# Altium integrated library Analog Devices Data Converters Digital-to-Analog Converters.IntLib: 2231 symbols (part 21 of 181)
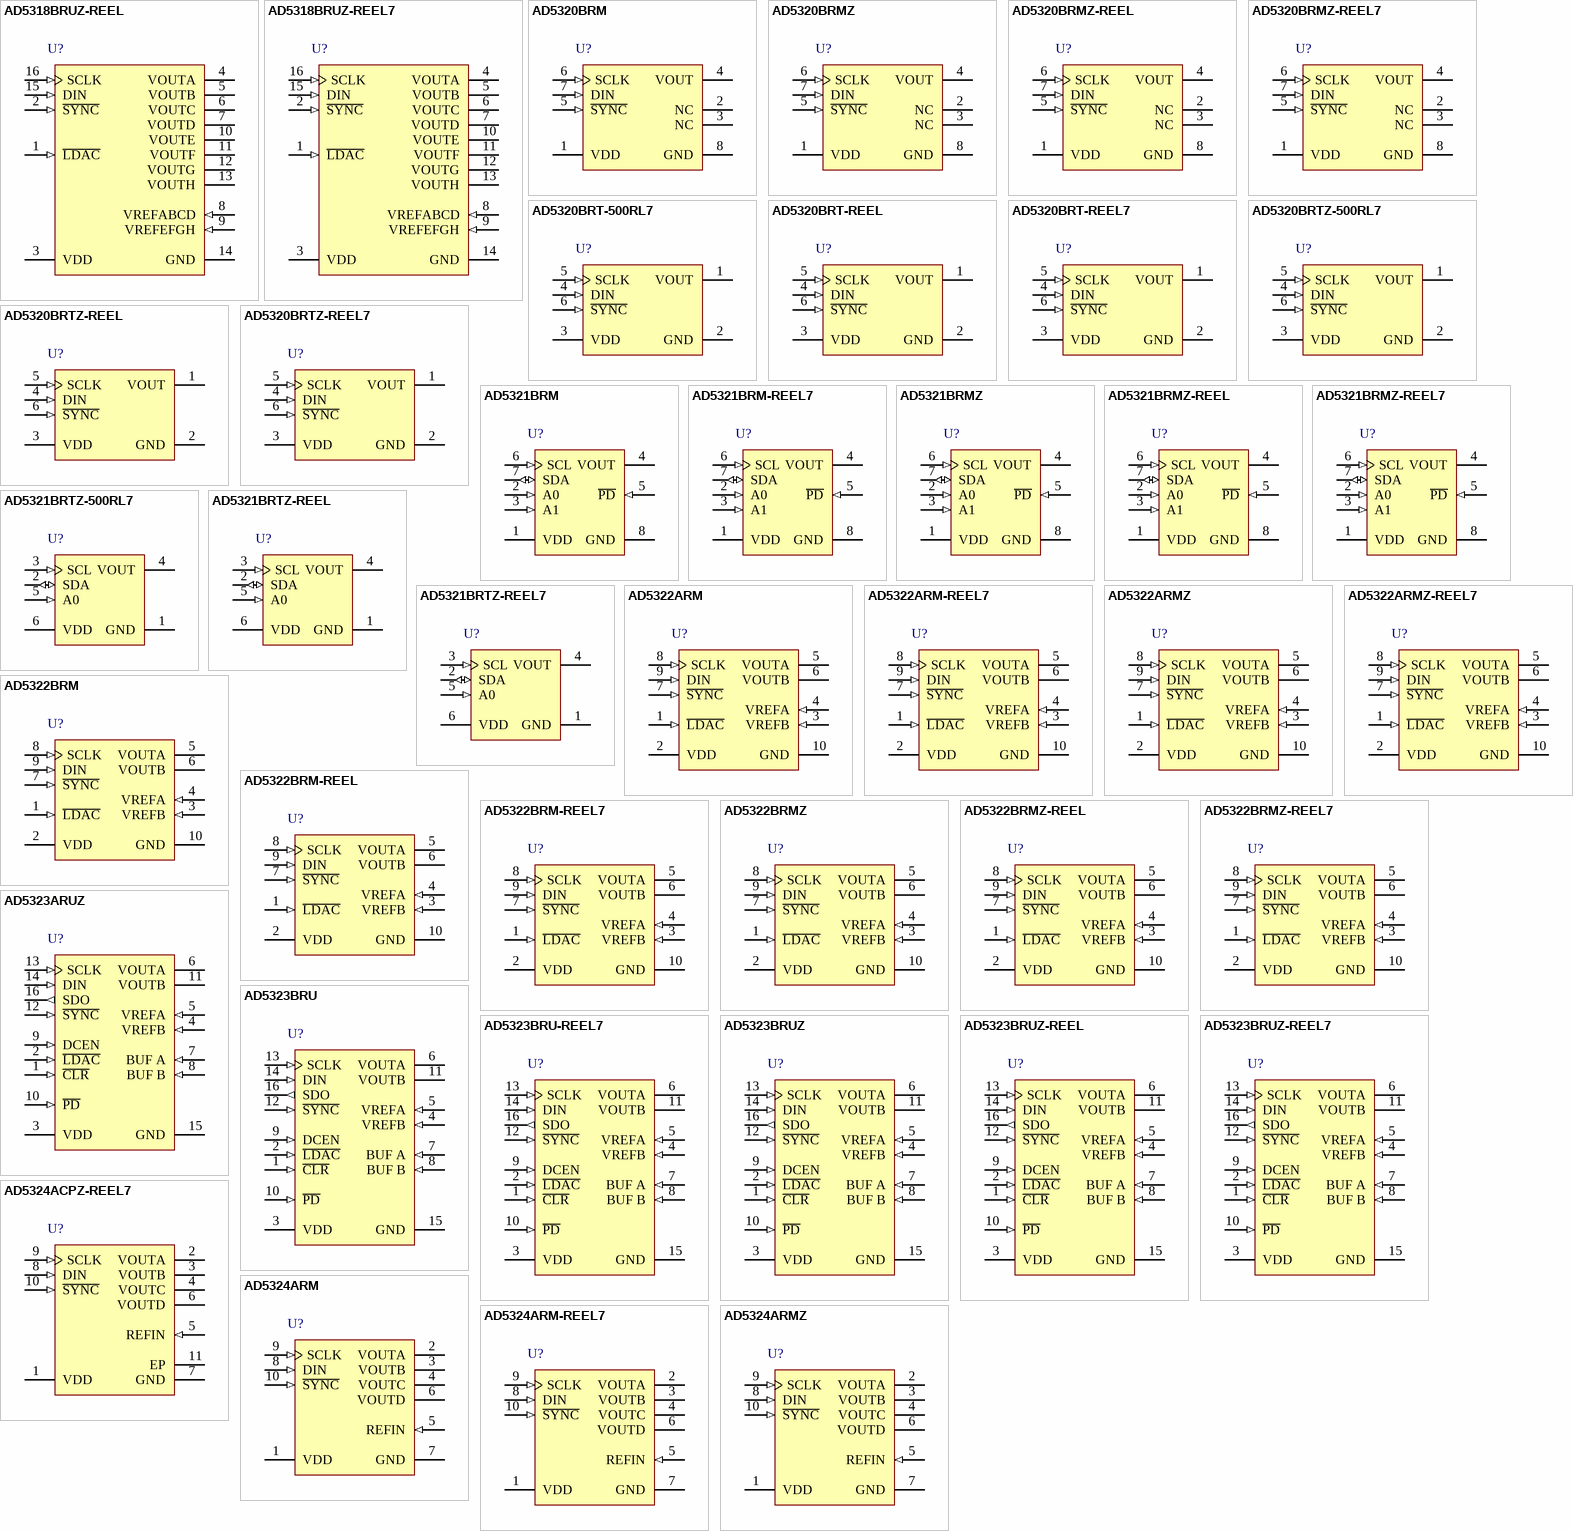
[diagram p134: symbols AD5318BRUZ-REEL to AD5324ARMZ]

## AD5321BRM-REEL7
designator U?
Single 12-Bit Digital-to-Analog Converter with 2-Wire Interface, 2.5 to 5.5 V, 120 uA, -40 to +105 degC, RM-8, Reel; Generic Part Number: AD5321; Manufacturer: Analog Devices; PartNumber: AD5321BRM-REEL7; # DAC Outputs: 1; Max V+: 5.5V; Op Pwr Diss: 1.4mW; Resolution (Bits): 12; Settling Time: 8µs; Single Supply: Yes; DatasheetVersion: Rev.B; PackageVersion: Aug-2005; PackageReference: RM-8; PackageDescription: 8-Lead Mini Small Outline Package [MSOP]; Supplier 1: Digi-Key; Supplier Part Number 1: AD5321BRM-REEL7-ND; Supplier 2: Mouser; Supplier Part Number 2: 584-AD5321BRM-R7; Packing: Reel; RoHS: N; Mounting Technology: Surface Mount; Code_JEDEC: MO-187-AA; ComponentLink1Description: Manufacturer URL; ComponentLink1URL: http://www.analog.com/en/index.html; ComponentLink2Description: Datasheet; ComponentLink2URL: http://www.analog.com/static/imported-files/data_sheets/AD5301_5311_5321.pdf; ComponentLink3Description: Package Specification; ComponentLink3URL: http://www.analog.com/static/imported-files/packages/PKG_PDF/MSOP%28RM%29/RM_8.pdf; ComponentLink4Description: Product URL; ComponentLink4URL: http://www.analog.com/en/digital-to-analog-converters/da-converters/ad5321/products/product.html
footprint RM-8_N (TSOP, 8-Leads, Body 3x3mm, Pitch 0.65mm, IPC Medium Density)
footprint RM-8_L (TSOP, 8-Leads, Body 3x3mm, Pitch 0.65mm, IPC High Density)
footprint RM-8_M (TSOP, 8-Leads, Body 3x3mm, Pitch 0.65mm, IPC Low Density)
pins: 1 VDD (power) "Power Supply Input. These parts can be operated from 2.5 V to 5.5 V and the supply should be decoupled with a 10 uF in parallel with a 0.1 uF capacitor to GND.", 2 A0 (in) "Address Input. Sets the least significant bit of the 7-bit slave address.", 3 A1 (in) "Address Input. Sets the second least significant bit of the 7-bit slave address.", 4 VOUT (hiz) "Buffered Analog Output Voltage from the DAC. The output amplifier has rail-to-rail operation.", 5 ~{PD} (in) "Active Low Control Input. Acts as a hardware power-down option. This pin overrides any software power-down option. The DAC output goes three-state and the current consumption of the part drops to 50 nA @ 3 V (200 nA @ 5 V).", 6 SCL (in) "Serial Clock Line. This is used in conjunction with the SDA line to clock data into the 16-bit input shift register. Clock rates of up to 400 kbps can be accommodated in the I2C-compatible interface. SCL may be CMOS/TTL (See Datasheet)", 7 SDA (io) "Serial Data Line. This is used in conjunction with the SCL line to clock data into the 16-bit input shift register during the write cycle and to read back one or two bytes of data (two bytes for the AD5321) during the read (See Datasheet)", 8 GND (power) "Ground Reference Point for All Circuitry on the Part."

## AD5321BRMZ
designator U?
Single 12-Bit Digital-to-Analog Converter with 2-Wire Interface, 2.5 to 5.5 V, 120 uA, -40 to +105 degC, RM-8, Pb-Free, Tube; Generic Part Number: AD5321; Manufacturer: Analog Devices; PartNumber: AD5321BRMZ; # DAC Outputs: 1; Max V+: 5.5V; Op Pwr Diss: 1.4mW; Resolution (Bits): 12; Settling Time: 8µs; Single Supply: Yes; DatasheetVersion: Rev.B; PackageVersion: Aug-2005; PackageReference: RM-8; PackageDescription: 8-Lead Mini Small Outline Package [MSOP]; Supplier 1: Digi-Key; Supplier Part Number 1: AD5321BRMZ-ND; Supplier 2: Farnell; Supplier Part Number 2: 9603964; Supplier 3: Newark; Supplier Part Number 3: 19M0810; Supplier 4: Mouser; Supplier Part Number 4: 584-AD5321BRMZ; Packing: Tube; RoHS: Y; Mounting Technology: Surface Mount; Code_JEDEC: MO-187-AA; ComponentLink1Description: Manufacturer URL; ComponentLink1URL: http://www.analog.com/en/index.html; ComponentLink2Description: Datasheet; ComponentLink2URL: http://www.analog.com/static/imported-files/data_sheets/AD5301_5311_5321.pdf; ComponentLink3Description: Package Specification; ComponentLink3URL: http://www.analog.com/static/imported-files/packages/PKG_PDF/MSOP%28RM%29/RM_8.pdf; ComponentLink4Description: Product URL; ComponentLink4URL: http://www.analog.com/en/digital-to-analog-converters/da-converters/ad5321/products/product.html
footprint RM-8_N (TSOP, 8-Leads, Body 3x3mm, Pitch 0.65mm, IPC Medium Density)
footprint RM-8_L (TSOP, 8-Leads, Body 3x3mm, Pitch 0.65mm, IPC High Density)
footprint RM-8_M (TSOP, 8-Leads, Body 3x3mm, Pitch 0.65mm, IPC Low Density)
pins: 1 VDD (power) "Power Supply Input. These parts can be operated from 2.5 V to 5.5 V and the supply should be decoupled with a 10 uF in parallel with a 0.1 uF capacitor to GND.", 2 A0 (in) "Address Input. Sets the least significant bit of the 7-bit slave address.", 3 A1 (in) "Address Input. Sets the second least significant bit of the 7-bit slave address.", 4 VOUT (hiz) "Buffered Analog Output Voltage from the DAC. The output amplifier has rail-to-rail operation.", 5 ~{PD} (in) "Active Low Control Input. Acts as a hardware power-down option. This pin overrides any software power-down option. The DAC output goes three-state and the current consumption of the part drops to 50 nA @ 3 V (200 nA @ 5 V).", 6 SCL (in) "Serial Clock Line. This is used in conjunction with the SDA line to clock data into the 16-bit input shift register. Clock rates of up to 400 kbps can be accommodated in the I2C-compatible interface. SCL may be CMOS/TTL (See Datasheet)", 7 SDA (io) "Serial Data Line. This is used in conjunction with the SCL line to clock data into the 16-bit input shift register during the write cycle and to read back one or two bytes of data (two bytes for the AD5321) during the read (See Datasheet)", 8 GND (power) "Ground Reference Point for All Circuitry on the Part."

## AD5321BRMZ-REEL
designator U?
Single 12-Bit Digital-to-Analog Converter with 2-Wire Interface, 2.5 to 5.5 V, 120 uA, -40 to +105 degC, RM-8, Pb-Free, Reel; Generic Part Number: AD5321; Manufacturer: Analog Devices; PartNumber: AD5321BRMZ-REEL; # DAC Outputs: 1; Max V+: 5.5V; Op Pwr Diss: 1.4mW; Resolution (Bits): 12; Settling Time: 8µs; Single Supply: Yes; DatasheetVersion: Rev.B; PackageVersion: Aug-2005; PackageReference: RM-8; PackageDescription: 8-Lead Mini Small Outline Package [MSOP]; Supplier 1: Digi-Key; Supplier Part Number 1: AD5321BRMZ-REEL-ND; Supplier 2: Newark; Supplier Part Number 2: 59K3927; Supplier 3: Mouser; Supplier Part Number 3: 584-AD5321BRMZ-R; Packing: Reel; RoHS: Y; Mounting Technology: Surface Mount; Code_JEDEC: MO-187-AA; ComponentLink1Description: Manufacturer URL; ComponentLink1URL: http://www.analog.com/en/index.html; ComponentLink2Description: Datasheet; ComponentLink2URL: http://www.analog.com/static/imported-files/data_sheets/AD5301_5311_5321.pdf; ComponentLink3Description: Package Specification; ComponentLink3URL: http://www.analog.com/static/imported-files/packages/PKG_PDF/MSOP%28RM%29/RM_8.pdf; ComponentLink4Description: Product URL; ComponentLink4URL: http://www.analog.com/en/digital-to-analog-converters/da-converters/ad5321/products/product.html
footprint RM-8_N (TSOP, 8-Leads, Body 3x3mm, Pitch 0.65mm, IPC Medium Density)
footprint RM-8_L (TSOP, 8-Leads, Body 3x3mm, Pitch 0.65mm, IPC High Density)
footprint RM-8_M (TSOP, 8-Leads, Body 3x3mm, Pitch 0.65mm, IPC Low Density)
pins: 1 VDD (power) "Power Supply Input. These parts can be operated from 2.5 V to 5.5 V and the supply should be decoupled with a 10 uF in parallel with a 0.1 uF capacitor to GND.", 2 A0 (in) "Address Input. Sets the least significant bit of the 7-bit slave address.", 3 A1 (in) "Address Input. Sets the second least significant bit of the 7-bit slave address.", 4 VOUT (hiz) "Buffered Analog Output Voltage from the DAC. The output amplifier has rail-to-rail operation.", 5 ~{PD} (in) "Active Low Control Input. Acts as a hardware power-down option. This pin overrides any software power-down option. The DAC output goes three-state and the current consumption of the part drops to 50 nA @ 3 V (200 nA @ 5 V).", 6 SCL (in) "Serial Clock Line. This is used in conjunction with the SDA line to clock data into the 16-bit input shift register. Clock rates of up to 400 kbps can be accommodated in the I2C-compatible interface. SCL may be CMOS/TTL (See Datasheet)", 7 SDA (io) "Serial Data Line. This is used in conjunction with the SCL line to clock data into the 16-bit input shift register during the write cycle and to read back one or two bytes of data (two bytes for the AD5321) during the read (See Datasheet)", 8 GND (power) "Ground Reference Point for All Circuitry on the Part."

## AD5321BRMZ-REEL7
designator U?
Single 12-Bit Digital-to-Analog Converter with 2-Wire Interface, 2.5 to 5.5 V, 120 uA, -40 to +105 degC, RM-8, Pb-Free, Reel; Generic Part Number: AD5321; Manufacturer: Analog Devices; PartNumber: AD5321BRMZ-REEL7; # DAC Outputs: 1; Max V+: 5.5V; Op Pwr Diss: 1.4mW; Resolution (Bits): 12; Settling Time: 8µs; Single Supply: Yes; DatasheetVersion: Rev.B; PackageVersion: Aug-2005; PackageReference: RM-8; PackageDescription: 8-Lead Mini Small Outline Package [MSOP]; Supplier 1: Digi-Key; Supplier Part Number 1: AD5321BRMZ-REEL7TR-ND; Supplier 2: Digi-Key; Supplier Part Number 2: AD5321BRMZ-REEL7CT-ND; Supplier 3: Digi-Key; Supplier Part Number 3: AD5321BRMZ-REEL7DKR-ND; Supplier 4: Mouser; Supplier Part Number 4: 584-AD5321BRMZ-R7; Packing: Reel; RoHS: Y; Mounting Technology: Surface Mount; Code_JEDEC: MO-187-AA; ComponentLink1Description: Manufacturer URL; ComponentLink1URL: http://www.analog.com/en/index.html; ComponentLink2Description: Datasheet; ComponentLink2URL: http://www.analog.com/static/imported-files/data_sheets/AD5301_5311_5321.pdf; ComponentLink3Description: Package Specification; ComponentLink3URL: http://www.analog.com/static/imported-files/packages/PKG_PDF/MSOP%28RM%29/RM_8.pdf; ComponentLink4Description: Product URL; ComponentLink4URL: http://www.analog.com/en/digital-to-analog-converters/da-converters/ad5321/products/product.html
footprint RM-8_N (TSOP, 8-Leads, Body 3x3mm, Pitch 0.65mm, IPC Medium Density)
footprint RM-8_L (TSOP, 8-Leads, Body 3x3mm, Pitch 0.65mm, IPC High Density)
footprint RM-8_M (TSOP, 8-Leads, Body 3x3mm, Pitch 0.65mm, IPC Low Density)
pins: 1 VDD (power) "Power Supply Input. These parts can be operated from 2.5 V to 5.5 V and the supply should be decoupled with a 10 uF in parallel with a 0.1 uF capacitor to GND.", 2 A0 (in) "Address Input. Sets the least significant bit of the 7-bit slave address.", 3 A1 (in) "Address Input. Sets the second least significant bit of the 7-bit slave address.", 4 VOUT (hiz) "Buffered Analog Output Voltage from the DAC. The output amplifier has rail-to-rail operation.", 5 ~{PD} (in) "Active Low Control Input. Acts as a hardware power-down option. This pin overrides any software power-down option. The DAC output goes three-state and the current consumption of the part drops to 50 nA @ 3 V (200 nA @ 5 V).", 6 SCL (in) "Serial Clock Line. This is used in conjunction with the SDA line to clock data into the 16-bit input shift register. Clock rates of up to 400 kbps can be accommodated in the I2C-compatible interface. SCL may be CMOS/TTL (See Datasheet)", 7 SDA (io) "Serial Data Line. This is used in conjunction with the SCL line to clock data into the 16-bit input shift register during the write cycle and to read back one or two bytes of data (two bytes for the AD5321) during the read (See Datasheet)", 8 GND (power) "Ground Reference Point for All Circuitry on the Part."

## AD5321BRTZ-500RL7
designator U?
Single 12-Bit Digital-to-Analog Converter with 2-Wire Interface, 2.5 to 5.5 V, 120 uA, -40 to +105 degC, RJ-6, Pb-Free, Reel; Generic Part Number: AD5321; Manufacturer: Analog Devices; PartNumber: AD5321BRTZ-500RL7; # DAC Outputs: 1; Max V+: 5.5V; Op Pwr Diss: 1.4mW; Resolution (Bits): 12; Settling Time: 8µs; Single Supply: Yes; DatasheetVersion: Rev.B; PackageVersion: 121608-A; PackageReference: RJ-6; PackageDescription: 6-Lead Small Outline Transistor Package [SOT-23]; Supplier 1: Digi-Key; Supplier Part Number 1: AD5321BRTZ-500RL7TR-ND; Supplier 2: Digi-Key; Supplier Part Number 2: AD5321BRTZ-500RL7CT-ND; Supplier 3: Digi-Key; Supplier Part Number 3: AD5321BRTZ-500RL7DKR-ND; Supplier 4: Mouser; Supplier Part Number 4: 584-AD5321BRTZ-500R7; Packing: Reel; RoHS: Y; Mounting Technology: Surface Mount; Code_JEDEC: MO-178-AB; ComponentLink1Description: Manufacturer URL; ComponentLink1URL: http://www.analog.com/en/index.html; ComponentLink2Description: Datasheet; ComponentLink2URL: http://www.analog.com/static/imported-files/data_sheets/AD5301_5311_5321.pdf; ComponentLink3Description: Package Specification; ComponentLink3URL: http://www.analog.com/static/imported-files/packages/PKG_PDF/SOT-23(RJ)/RJ_6.pdf; ComponentLink4Description: Product URL; ComponentLink4URL: http://www.analog.com/en/digital-to-analog-converters/da-converters/ad5321/products/product.html
footprint RJ-6_N (SOT23, 6-Leads, Body 2.9x1.6mm, Pitch 0.95mm, Lead Span 2.8mm, IPC Medium Density)
footprint RJ-6_L (SOT23, 6-Leads, Body 2.9x1.6mm, Pitch 0.95mm, Lead Span 2.8mm, IPC High Density)
footprint RJ-6_M (SOT23, 6-Leads, Body 2.9x1.6mm, Pitch 0.95mm, Lead Span 2.8mm, IPC Low Density)
pins: 1 GND (power) "Ground Reference Point for All Circuitry on the Part.", 2 SDA (io) "Serial Data Line. This is used in conjunction with the SCL line to clock data into the 16-bit input shift register during the write cycle and to read back one or two bytes of data (one byte for the AD5301,  two bytes for the (See Datasheet)", 3 SCL (in) "Serial Clock Line. This is used in conjunction with the SDA line to clock data into the 16-bit input shift register. Clock rates of up to 400 kbps can be accommodated in the I2C-compatible interface. SCL may be CMOS/TTL (See Datasheet)", 4 VOUT (hiz) "Buffered Analog Output Voltage from the DAC. The output amplifier has rail-to-rail operation.", 5 A0 (in) "Address Input. Sets the least significant bit of the 7-bit slave address.", 6 VDD (power) "Power Supply Input. These parts can be operated from 2.5 V to 5.5 V and the supply should be decoupled with a 10 μF in parallel with a 0.1uF capacitor to GND."

## AD5321BRTZ-REEL
designator U?
Single 12-Bit Digital-to-Analog Converter with 2-Wire Interface, 2.5 to 5.5 V, 120 uA, -40 to +105 degC, RJ-6, Pb-Free, Reel; Generic Part Number: AD5321; Manufacturer: Analog Devices; PartNumber: AD5321BRTZ-REEL; # DAC Outputs: 1; Max V+: 5.5V; Op Pwr Diss: 1.4mW; Resolution (Bits): 12; Settling Time: 8µs; Single Supply: Yes; DatasheetVersion: Rev.B; PackageVersion: 121608-A; PackageReference: RJ-6; PackageDescription: 6-Lead Small Outline Transistor Package [SOT-23]; Supplier 1: Digi-Key; Supplier Part Number 1: AD5321BRTZ-REEL-ND; Supplier 2: Mouser; Supplier Part Number 2: 584-AD5321BRTZ-R; Packing: Reel; RoHS: Y; Mounting Technology: Surface Mount; Code_JEDEC: MO-178-AB; ComponentLink1Description: Manufacturer URL; ComponentLink1URL: http://www.analog.com/en/index.html; ComponentLink2Description: Datasheet; ComponentLink2URL: http://www.analog.com/static/imported-files/data_sheets/AD5301_5311_5321.pdf; ComponentLink3Description: Package Specification; ComponentLink3URL: http://www.analog.com/static/imported-files/packages/PKG_PDF/SOT-23(RJ)/RJ_6.pdf; ComponentLink4Description: Product URL; ComponentLink4URL: http://www.analog.com/en/digital-to-analog-converters/da-converters/ad5321/products/product.html
footprint RJ-6_N (SOT23, 6-Leads, Body 2.9x1.6mm, Pitch 0.95mm, Lead Span 2.8mm, IPC Medium Density)
footprint RJ-6_L (SOT23, 6-Leads, Body 2.9x1.6mm, Pitch 0.95mm, Lead Span 2.8mm, IPC High Density)
footprint RJ-6_M (SOT23, 6-Leads, Body 2.9x1.6mm, Pitch 0.95mm, Lead Span 2.8mm, IPC Low Density)
pins: 1 GND (power) "Ground Reference Point for All Circuitry on the Part.", 2 SDA (io) "Serial Data Line. This is used in conjunction with the SCL line to clock data into the 16-bit input shift register during the write cycle and to read back one or two bytes of data (one byte for the AD5301,  two bytes for the (See Datasheet)", 3 SCL (in) "Serial Clock Line. This is used in conjunction with the SDA line to clock data into the 16-bit input shift register. Clock rates of up to 400 kbps can be accommodated in the I2C-compatible interface. SCL may be CMOS/TTL (See Datasheet)", 4 VOUT (hiz) "Buffered Analog Output Voltage from the DAC. The output amplifier has rail-to-rail operation.", 5 A0 (in) "Address Input. Sets the least significant bit of the 7-bit slave address.", 6 VDD (power) "Power Supply Input. These parts can be operated from 2.5 V to 5.5 V and the supply should be decoupled with a 10 μF in parallel with a 0.1uF capacitor to GND."

## AD5321BRTZ-REEL7
designator U?
Single 12-Bit Digital-to-Analog Converter with 2-Wire Interface, 2.5 to 5.5 V, 120 uA, -40 to +105 degC, RJ-6, Pb-Free, Reel; Generic Part Number: AD5321; Manufacturer: Analog Devices; PartNumber: AD5321BRTZ-REEL7; # DAC Outputs: 1; Max V+: 5.5V; Op Pwr Diss: 1.4mW; Resolution (Bits): 12; Settling Time: 8µs; Single Supply: Yes; DatasheetVersion: Rev.B; PackageVersion: 121608-A; PackageReference: RJ-6; PackageDescription: 6-Lead Small Outline Transistor Package [SOT-23]; Supplier 1: Digi-Key; Supplier Part Number 1: AD5321BRTZ-REEL7TR-ND; Supplier 2: Digi-Key; Supplier Part Number 2: AD5321BRTZ-REEL7CT-ND; Supplier 3: Digi-Key; Supplier Part Number 3: AD5321BRTZ-REEL7DKR-ND; Supplier 4: Mouser; Supplier Part Number 4: 584-AD5321BRTZ-R7; Packing: Reel; RoHS: Y; Mounting Technology: Surface Mount; Code_JEDEC: MO-178-AB; ComponentLink1Description: Manufacturer URL; ComponentLink1URL: http://www.analog.com/en/index.html; ComponentLink2Description: Datasheet; ComponentLink2URL: http://www.analog.com/static/imported-files/data_sheets/AD5301_5311_5321.pdf; ComponentLink3Description: Package Specification; ComponentLink3URL: http://www.analog.com/static/imported-files/packages/PKG_PDF/SOT-23(RJ)/RJ_6.pdf; ComponentLink4Description: Product URL; ComponentLink4URL: http://www.analog.com/en/digital-to-analog-converters/da-converters/ad5321/products/product.html
footprint RJ-6_N (SOT23, 6-Leads, Body 2.9x1.6mm, Pitch 0.95mm, Lead Span 2.8mm, IPC Medium Density)
footprint RJ-6_L (SOT23, 6-Leads, Body 2.9x1.6mm, Pitch 0.95mm, Lead Span 2.8mm, IPC High Density)
footprint RJ-6_M (SOT23, 6-Leads, Body 2.9x1.6mm, Pitch 0.95mm, Lead Span 2.8mm, IPC Low Density)
pins: 1 GND (power) "Ground Reference Point for All Circuitry on the Part.", 2 SDA (io) "Serial Data Line. This is used in conjunction with the SCL line to clock data into the 16-bit input shift register during the write cycle and to read back one or two bytes of data (one byte for the AD5301,  two bytes for the (See Datasheet)", 3 SCL (in) "Serial Clock Line. This is used in conjunction with the SDA line to clock data into the 16-bit input shift register. Clock rates of up to 400 kbps can be accommodated in the I2C-compatible interface. SCL may be CMOS/TTL (See Datasheet)", 4 VOUT (hiz) "Buffered Analog Output Voltage from the DAC. The output amplifier has rail-to-rail operation.", 5 A0 (in) "Address Input. Sets the least significant bit of the 7-bit slave address.", 6 VDD (power) "Power Supply Input. These parts can be operated from 2.5 V to 5.5 V and the supply should be decoupled with a 10 μF in parallel with a 0.1uF capacitor to GND."

## AD5322ARM
designator U?
Dual 12-Bit Rail-to-Rail Output Digital-to-Analog Converter, 2.5 to 5.5 V, -40 to +105 degC, RM-10, Tube; Generic Part Number: AD5322; Manufacturer: Analog Devices; PartNumber: AD5322ARM; # DAC Outputs: 2; Max V+: 5.5V; Op Pwr Diss: 2.5mW; Resolution (Bits): 12; Settling Time: 8µs; Single Supply: Yes; DatasheetVersion: Rev.D; PackageVersion: May-2005; PackageReference: RM-10; PackageDescription: 10-Lead Mini Small Outline Package [MSOP]; Supplier 1: Digi-Key; Supplier Part Number 1: AD5322ARM-ND; Supplier 2: Mouser; Supplier Part Number 2: 584-AD5322ARM; Packing: Tube; RoHS: N; Mounting Technology: Surface Mount; ComponentLink1Description: Manufacturer URL; ComponentLink1URL: http://www.analog.com/en/index.html; ComponentLink2Description: Datasheet; ComponentLink2URL: http://www.analog.com/static/imported-files/data_sheets/AD5302_5312_5322.pdf; ComponentLink3Description: Package Specification; ComponentLink3URL: http://www.analog.com/static/imported-files/packages/PKG_PDF/MSOP%28RM%29/RM_10.pdf; ComponentLink4Description: Product URL; ComponentLink4URL: http://www.analog.com/en/digital-to-analog-converters/da-converters/ad5322/products/product.html
footprint RM-10_N (TSSOP, 10-Leads, Body 3x3mm, Pitch 0.5mm, IPC Medium Density)
footprint RM-10_L (TSSOP, 10-Leads, Body 3x3mm, Pitch 0.5mm, IPC High Density)
footprint RM-10_M (TSSOP, 10-Leads, Body 3x3mm, Pitch 0.5mm, IPC Low Density)
pins: 1 ~{LDAC} (in) "Active Low Control Input. This pin transfers the contents of the input registers to their respective DAC registers. Pulsing L\D\A\C\ low allows either or both DAC registers to be updated if the input registers have new data. (See Datasheet)", 2 VDD (power) "Power Supply Input. The parts can be operated from 2.5 V to 5.5 V, and the supply should be decoupled to GND.", 3 VREFB (in) "Reference Input Pin for DAC B. This is the reference for DAC B. It can be configured as a buffered or an unbuffered input, depending on the BUF bit in the control word of DAC B. It has an input range of 0 V to VDD in (See Datasheet)", 4 VREFA (in) "Reference Input Pin for DAC A. This is the reference for DAC A. It can be configured as a buffered or an unbuffered input depending on the BUF bit in the control word of DAC A. It has an input range of 0 V to VDD in (See Datasheet)", 5 VOUTA (hiz) "Buffered Analog Output Voltage from DAC A. The output amplifier has rail-to-rail operation.", 6 VOUTB (hiz) "Buffered Analog Output Voltage from DAC B. The output amplifier has rail-to-rail operation.", 7 ~{SYNC} (in) "Active Low Control Input. This is the frame synchronization signal for the input data. When S\Y\N\C\ goes low, it powers on the SCLK and DIN buffers and enables the input shift register. Data is transferred in on the falling (See Datasheet)", 8 SCLK (in) "Serial Clock Input. Data is clocked into the input shift register on the falling edge of the serial clock input. Data can be transferred at rates up to 30 MHz. The SCLK input buffer is powered down after each write cycle.", 9 DIN (in) "Serial Data Input. This device has a 16-bit input shift register. Data is clocked into the register on the falling edge of the serial clock input. The DIN input buffer is powered down after each write cycle.", 10 GND (power) "Ground Reference Point for All Circuitry on the Part."

## AD5322ARM-REEL7
designator U?
Dual 12-Bit Rail-to-Rail Output Digital-to-Analog Converter, 2.5 to 5.5 V, -40 to +105 degC, RM-10, Reel; Generic Part Number: AD5322; Manufacturer: Analog Devices; PartNumber: AD5322ARM-REEL7; # DAC Outputs: 2; Max V+: 5.5V; Op Pwr Diss: 2.5mW; Resolution (Bits): 12; Settling Time: 8µs; Single Supply: Yes; DatasheetVersion: Rev.D; PackageVersion: May-2005; PackageReference: RM-10; PackageDescription: 10-Lead Mini Small Outline Package [MSOP]; Supplier 1: Digi-Key; Supplier Part Number 1: AD5322ARM-REEL7-ND; Supplier 2: Mouser; Supplier Part Number 2: 584-AD5322ARM-R7; Packing: Reel; RoHS: N; Mounting Technology: Surface Mount; ComponentLink1Description: Manufacturer URL; ComponentLink1URL: http://www.analog.com/en/index.html; ComponentLink2Description: Datasheet; ComponentLink2URL: http://www.analog.com/static/imported-files/data_sheets/AD5302_5312_5322.pdf; ComponentLink3Description: Package Specification; ComponentLink3URL: http://www.analog.com/static/imported-files/packages/PKG_PDF/MSOP%28RM%29/RM_10.pdf; ComponentLink4Description: Product URL; ComponentLink4URL: http://www.analog.com/en/digital-to-analog-converters/da-converters/ad5322/products/product.html
footprint RM-10_N (TSSOP, 10-Leads, Body 3x3mm, Pitch 0.5mm, IPC Medium Density)
footprint RM-10_L (TSSOP, 10-Leads, Body 3x3mm, Pitch 0.5mm, IPC High Density)
footprint RM-10_M (TSSOP, 10-Leads, Body 3x3mm, Pitch 0.5mm, IPC Low Density)
pins: 1 ~{LDAC} (in) "Active Low Control Input. This pin transfers the contents of the input registers to their respective DAC registers. Pulsing L\D\A\C\ low allows either or both DAC registers to be updated if the input registers have new data. (See Datasheet)", 2 VDD (power) "Power Supply Input. The parts can be operated from 2.5 V to 5.5 V, and the supply should be decoupled to GND.", 3 VREFB (in) "Reference Input Pin for DAC B. This is the reference for DAC B. It can be configured as a buffered or an unbuffered input, depending on the BUF bit in the control word of DAC B. It has an input range of 0 V to VDD in (See Datasheet)", 4 VREFA (in) "Reference Input Pin for DAC A. This is the reference for DAC A. It can be configured as a buffered or an unbuffered input depending on the BUF bit in the control word of DAC A. It has an input range of 0 V to VDD in (See Datasheet)", 5 VOUTA (hiz) "Buffered Analog Output Voltage from DAC A. The output amplifier has rail-to-rail operation.", 6 VOUTB (hiz) "Buffered Analog Output Voltage from DAC B. The output amplifier has rail-to-rail operation.", 7 ~{SYNC} (in) "Active Low Control Input. This is the frame synchronization signal for the input data. When S\Y\N\C\ goes low, it powers on the SCLK and DIN buffers and enables the input shift register. Data is transferred in on the falling (See Datasheet)", 8 SCLK (in) "Serial Clock Input. Data is clocked into the input shift register on the falling edge of the serial clock input. Data can be transferred at rates up to 30 MHz. The SCLK input buffer is powered down after each write cycle.", 9 DIN (in) "Serial Data Input. This device has a 16-bit input shift register. Data is clocked into the register on the falling edge of the serial clock input. The DIN input buffer is powered down after each write cycle.", 10 GND (power) "Ground Reference Point for All Circuitry on the Part."

## AD5322ARMZ
designator U?
Dual 12-Bit Rail-to-Rail Output Digital-to-Analog Converter, 2.5 to 5.5 V, -40 to +105 degC, RM-10, Pb-Free, Tube; Generic Part Number: AD5322; Manufacturer: Analog Devices; PartNumber: AD5322ARMZ; # DAC Outputs: 2; Max V+: 5.5V; Op Pwr Diss: 2.5mW; Resolution (Bits): 12; Settling Time: 8µs; Single Supply: Yes; DatasheetVersion: Rev.D; PackageVersion: May-2005; PackageReference: RM-10; PackageDescription: 10-Lead Mini Small Outline Package [MSOP]; Supplier 1: Digi-Key; Supplier Part Number 1: AD5322ARMZ-ND; Supplier 2: Newark; Supplier Part Number 2: 59K3932; Supplier 3: Mouser; Supplier Part Number 3: 584-AD5322ARMZ; Packing: Tube; RoHS: Y; Mounting Technology: Surface Mount; ComponentLink1Description: Manufacturer URL; ComponentLink1URL: http://www.analog.com/en/index.html; ComponentLink2Description: Datasheet; ComponentLink2URL: http://www.analog.com/static/imported-files/data_sheets/AD5302_5312_5322.pdf; ComponentLink3Description: Package Specification; ComponentLink3URL: http://www.analog.com/static/imported-files/packages/PKG_PDF/MSOP%28RM%29/RM_10.pdf; ComponentLink4Description: Product URL; ComponentLink4URL: http://www.analog.com/en/digital-to-analog-converters/da-converters/ad5322/products/product.html
footprint RM-10_N (TSSOP, 10-Leads, Body 3x3mm, Pitch 0.5mm, IPC Medium Density)
footprint RM-10_L (TSSOP, 10-Leads, Body 3x3mm, Pitch 0.5mm, IPC High Density)
footprint RM-10_M (TSSOP, 10-Leads, Body 3x3mm, Pitch 0.5mm, IPC Low Density)
pins: 1 ~{LDAC} (in) "Active Low Control Input. This pin transfers the contents of the input registers to their respective DAC registers. Pulsing L\D\A\C\ low allows either or both DAC registers to be updated if the input registers have new data. (See Datasheet)", 2 VDD (power) "Power Supply Input. The parts can be operated from 2.5 V to 5.5 V, and the supply should be decoupled to GND.", 3 VREFB (in) "Reference Input Pin for DAC B. This is the reference for DAC B. It can be configured as a buffered or an unbuffered input, depending on the BUF bit in the control word of DAC B. It has an input range of 0 V to VDD in (See Datasheet)", 4 VREFA (in) "Reference Input Pin for DAC A. This is the reference for DAC A. It can be configured as a buffered or an unbuffered input depending on the BUF bit in the control word of DAC A. It has an input range of 0 V to VDD in (See Datasheet)", 5 VOUTA (hiz) "Buffered Analog Output Voltage from DAC A. The output amplifier has rail-to-rail operation.", 6 VOUTB (hiz) "Buffered Analog Output Voltage from DAC B. The output amplifier has rail-to-rail operation.", 7 ~{SYNC} (in) "Active Low Control Input. This is the frame synchronization signal for the input data. When S\Y\N\C\ goes low, it powers on the SCLK and DIN buffers and enables the input shift register. Data is transferred in on the falling (See Datasheet)", 8 SCLK (in) "Serial Clock Input. Data is clocked into the input shift register on the falling edge of the serial clock input. Data can be transferred at rates up to 30 MHz. The SCLK input buffer is powered down after each write cycle.", 9 DIN (in) "Serial Data Input. This device has a 16-bit input shift register. Data is clocked into the register on the falling edge of the serial clock input. The DIN input buffer is powered down after each write cycle.", 10 GND (power) "Ground Reference Point for All Circuitry on the Part."

## AD5322ARMZ-REEL7
designator U?
Dual 12-Bit Rail-to-Rail Output Digital-to-Analog Converter, 2.5 to 5.5 V, -40 to +105 degC, RM-10, Pb-Free, Reel; Generic Part Number: AD5322; Manufacturer: Analog Devices; PartNumber: AD5322ARMZ-REEL7; # DAC Outputs: 2; Max V+: 5.5V; Op Pwr Diss: 2.5mW; Resolution (Bits): 12; Settling Time: 8µs; Single Supply: Yes; DatasheetVersion: Rev.D; PackageVersion: May-2005; PackageReference: RM-10; PackageDescription: 10-Lead Mini Small Outline Package [MSOP]; Supplier 1: Digi-Key; Supplier Part Number 1: AD5322ARMZ-REEL7-ND; Supplier 2: Mouser; Supplier Part Number 2: 584-AD5322ARMZ-R7; Packing: Reel; RoHS: Y; Mounting Technology: Surface Mount; ComponentLink1Description: Manufacturer URL; ComponentLink1URL: http://www.analog.com/en/index.html; ComponentLink2Description: Datasheet; ComponentLink2URL: http://www.analog.com/static/imported-files/data_sheets/AD5302_5312_5322.pdf; ComponentLink3Description: Package Specification; ComponentLink3URL: http://www.analog.com/static/imported-files/packages/PKG_PDF/MSOP%28RM%29/RM_10.pdf; ComponentLink4Description: Product URL; ComponentLink4URL: http://www.analog.com/en/digital-to-analog-converters/da-converters/ad5322/products/product.html
footprint RM-10_N (TSSOP, 10-Leads, Body 3x3mm, Pitch 0.5mm, IPC Medium Density)
footprint RM-10_L (TSSOP, 10-Leads, Body 3x3mm, Pitch 0.5mm, IPC High Density)
footprint RM-10_M (TSSOP, 10-Leads, Body 3x3mm, Pitch 0.5mm, IPC Low Density)
pins: 1 ~{LDAC} (in) "Active Low Control Input. This pin transfers the contents of the input registers to their respective DAC registers. Pulsing L\D\A\C\ low allows either or both DAC registers to be updated if the input registers have new data. (See Datasheet)", 2 VDD (power) "Power Supply Input. The parts can be operated from 2.5 V to 5.5 V, and the supply should be decoupled to GND.", 3 VREFB (in) "Reference Input Pin for DAC B. This is the reference for DAC B. It can be configured as a buffered or an unbuffered input, depending on the BUF bit in the control word of DAC B. It has an input range of 0 V to VDD in (See Datasheet)", 4 VREFA (in) "Reference Input Pin for DAC A. This is the reference for DAC A. It can be configured as a buffered or an unbuffered input depending on the BUF bit in the control word of DAC A. It has an input range of 0 V to VDD in (See Datasheet)", 5 VOUTA (hiz) "Buffered Analog Output Voltage from DAC A. The output amplifier has rail-to-rail operation.", 6 VOUTB (hiz) "Buffered Analog Output Voltage from DAC B. The output amplifier has rail-to-rail operation.", 7 ~{SYNC} (in) "Active Low Control Input. This is the frame synchronization signal for the input data. When S\Y\N\C\ goes low, it powers on the SCLK and DIN buffers and enables the input shift register. Data is transferred in on the falling (See Datasheet)", 8 SCLK (in) "Serial Clock Input. Data is clocked into the input shift register on the falling edge of the serial clock input. Data can be transferred at rates up to 30 MHz. The SCLK input buffer is powered down after each write cycle.", 9 DIN (in) "Serial Data Input. This device has a 16-bit input shift register. Data is clocked into the register on the falling edge of the serial clock input. The DIN input buffer is powered down after each write cycle.", 10 GND (power) "Ground Reference Point for All Circuitry on the Part."

## AD5322BRM
designator U?
Dual 12-Bit Rail-to-Rail Output Digital-to-Analog Converter, 2.5 to 5.5 V, -40 to +105 degC, RM-10, Tube; Generic Part Number: AD5322; Manufacturer: Analog Devices; PartNumber: AD5322BRM; # DAC Outputs: 2; Max V+: 5.5V; Op Pwr Diss: 2.5mW; Resolution (Bits): 12; Settling Time: 8µs; Single Supply: Yes; DatasheetVersion: Rev.D; PackageVersion: May-2005; PackageReference: RM-10; PackageDescription: 10-Lead Mini Small Outline Package [MSOP]; Supplier 1: Digi-Key; Supplier Part Number 1: AD5322BRM-ND; Supplier 2: Mouser; Supplier Part Number 2: 584-AD5322BRM; Packing: Tube; RoHS: N; Mounting Technology: Surface Mount; ComponentLink1Description: Manufacturer URL; ComponentLink1URL: http://www.analog.com/en/index.html; ComponentLink2Description: Datasheet; ComponentLink2URL: http://www.analog.com/static/imported-files/data_sheets/AD5302_5312_5322.pdf; ComponentLink3Description: Package Specification; ComponentLink3URL: http://www.analog.com/static/imported-files/packages/PKG_PDF/MSOP%28RM%29/RM_10.pdf; ComponentLink4Description: Product URL; ComponentLink4URL: http://www.analog.com/en/digital-to-analog-converters/da-converters/ad5322/products/product.html
footprint RM-10_N (TSSOP, 10-Leads, Body 3x3mm, Pitch 0.5mm, IPC Medium Density)
footprint RM-10_L (TSSOP, 10-Leads, Body 3x3mm, Pitch 0.5mm, IPC High Density)
footprint RM-10_M (TSSOP, 10-Leads, Body 3x3mm, Pitch 0.5mm, IPC Low Density)
pins: 1 ~{LDAC} (in) "Active Low Control Input. This pin transfers the contents of the input registers to their respective DAC registers. Pulsing L\D\A\C\ low allows either or both DAC registers to be updated if the input registers have new data. (See Datasheet)", 2 VDD (power) "Power Supply Input. The parts can be operated from 2.5 V to 5.5 V, and the supply should be decoupled to GND.", 3 VREFB (in) "Reference Input Pin for DAC B. This is the reference for DAC B. It can be configured as a buffered or an unbuffered input, depending on the BUF bit in the control word of DAC B. It has an input range of 0 V to VDD in (See Datasheet)", 4 VREFA (in) "Reference Input Pin for DAC A. This is the reference for DAC A. It can be configured as a buffered or an unbuffered input depending on the BUF bit in the control word of DAC A. It has an input range of 0 V to VDD in (See Datasheet)", 5 VOUTA (hiz) "Buffered Analog Output Voltage from DAC A. The output amplifier has rail-to-rail operation.", 6 VOUTB (hiz) "Buffered Analog Output Voltage from DAC B. The output amplifier has rail-to-rail operation.", 7 ~{SYNC} (in) "Active Low Control Input. This is the frame synchronization signal for the input data. When S\Y\N\C\ goes low, it powers on the SCLK and DIN buffers and enables the input shift register. Data is transferred in on the falling (See Datasheet)", 8 SCLK (in) "Serial Clock Input. Data is clocked into the input shift register on the falling edge of the serial clock input. Data can be transferred at rates up to 30 MHz. The SCLK input buffer is powered down after each write cycle.", 9 DIN (in) "Serial Data Input. This device has a 16-bit input shift register. Data is clocked into the register on the falling edge of the serial clock input. The DIN input buffer is powered down after each write cycle.", 10 GND (power) "Ground Reference Point for All Circuitry on the Part."

## AD5322BRM-REEL
designator U?
Dual 12-Bit Rail-to-Rail Output Digital-to-Analog Converter, 2.5 to 5.5 V, -40 to +105 degC, RM-10, Reel; Generic Part Number: AD5322; Manufacturer: Analog Devices; PartNumber: AD5322BRM-REEL; # DAC Outputs: 2; Max V+: 5.5V; Op Pwr Diss: 2.5mW; Resolution (Bits): 12; Settling Time: 8µs; Single Supply: Yes; DatasheetVersion: Rev.D; PackageVersion: May-2005; PackageReference: RM-10; PackageDescription: 10-Lead Mini Small Outline Package [MSOP]; Supplier 1: Mouser; Supplier Part Number 1: N/A; Packing: Reel; RoHS: N; Mounting Technology: Surface Mount; ComponentLink1Description: Manufacturer URL; ComponentLink1URL: http://www.analog.com/en/index.html; ComponentLink2Description: Datasheet; ComponentLink2URL: http://www.analog.com/static/imported-files/data_sheets/AD5302_5312_5322.pdf; ComponentLink3Description: Package Specification; ComponentLink3URL: http://www.analog.com/static/imported-files/packages/PKG_PDF/MSOP%28RM%29/RM_10.pdf; ComponentLink4Description: Product URL; ComponentLink4URL: http://www.analog.com/en/digital-to-analog-converters/da-converters/ad5322/products/product.html
footprint RM-10_N (TSSOP, 10-Leads, Body 3x3mm, Pitch 0.5mm, IPC Medium Density)
footprint RM-10_L (TSSOP, 10-Leads, Body 3x3mm, Pitch 0.5mm, IPC High Density)
footprint RM-10_M (TSSOP, 10-Leads, Body 3x3mm, Pitch 0.5mm, IPC Low Density)
pins: 1 ~{LDAC} (in) "Active Low Control Input. This pin transfers the contents of the input registers to their respective DAC registers. Pulsing L\D\A\C\ low allows either or both DAC registers to be updated if the input registers have new data. (See Datasheet)", 2 VDD (power) "Power Supply Input. The parts can be operated from 2.5 V to 5.5 V, and the supply should be decoupled to GND.", 3 VREFB (in) "Reference Input Pin for DAC B. This is the reference for DAC B. It can be configured as a buffered or an unbuffered input, depending on the BUF bit in the control word of DAC B. It has an input range of 0 V to VDD in (See Datasheet)", 4 VREFA (in) "Reference Input Pin for DAC A. This is the reference for DAC A. It can be configured as a buffered or an unbuffered input depending on the BUF bit in the control word of DAC A. It has an input range of 0 V to VDD in (See Datasheet)", 5 VOUTA (hiz) "Buffered Analog Output Voltage from DAC A. The output amplifier has rail-to-rail operation.", 6 VOUTB (hiz) "Buffered Analog Output Voltage from DAC B. The output amplifier has rail-to-rail operation.", 7 ~{SYNC} (in) "Active Low Control Input. This is the frame synchronization signal for the input data. When S\Y\N\C\ goes low, it powers on the SCLK and DIN buffers and enables the input shift register. Data is transferred in on the falling (See Datasheet)", 8 SCLK (in) "Serial Clock Input. Data is clocked into the input shift register on the falling edge of the serial clock input. Data can be transferred at rates up to 30 MHz. The SCLK input buffer is powered down after each write cycle.", 9 DIN (in) "Serial Data Input. This device has a 16-bit input shift register. Data is clocked into the register on the falling edge of the serial clock input. The DIN input buffer is powered down after each write cycle.", 10 GND (power) "Ground Reference Point for All Circuitry on the Part."

## AD5322BRM-REEL7
designator U?
Dual 12-Bit Rail-to-Rail Output Digital-to-Analog Converter, 2.5 to 5.5 V, -40 to +105 degC, RM-10, Reel; Generic Part Number: AD5322; Manufacturer: Analog Devices; PartNumber: AD5322BRM-REEL7; # DAC Outputs: 2; Max V+: 5.5V; Op Pwr Diss: 2.5mW; Resolution (Bits): 12; Settling Time: 8µs; Single Supply: Yes; DatasheetVersion: Rev.D; PackageVersion: May-2005; PackageReference: RM-10; PackageDescription: 10-Lead Mini Small Outline Package [MSOP]; Supplier 1: Digi-Key; Supplier Part Number 1: AD5322BRM-REEL7-ND; Supplier 2: Mouser; Supplier Part Number 2: 584-AD5322BRM-R7; Packing: Reel; RoHS: N; Mounting Technology: Surface Mount; ComponentLink1Description: Manufacturer URL; ComponentLink1URL: http://www.analog.com/en/index.html; ComponentLink2Description: Datasheet; ComponentLink2URL: http://www.analog.com/static/imported-files/data_sheets/AD5302_5312_5322.pdf; ComponentLink3Description: Package Specification; ComponentLink3URL: http://www.analog.com/static/imported-files/packages/PKG_PDF/MSOP%28RM%29/RM_10.pdf; ComponentLink4Description: Product URL; ComponentLink4URL: http://www.analog.com/en/digital-to-analog-converters/da-converters/ad5322/products/product.html
footprint RM-10_N (TSSOP, 10-Leads, Body 3x3mm, Pitch 0.5mm, IPC Medium Density)
footprint RM-10_L (TSSOP, 10-Leads, Body 3x3mm, Pitch 0.5mm, IPC High Density)
footprint RM-10_M (TSSOP, 10-Leads, Body 3x3mm, Pitch 0.5mm, IPC Low Density)
pins: 1 ~{LDAC} (in) "Active Low Control Input. This pin transfers the contents of the input registers to their respective DAC registers. Pulsing L\D\A\C\ low allows either or both DAC registers to be updated if the input registers have new data. (See Datasheet)", 2 VDD (power) "Power Supply Input. The parts can be operated from 2.5 V to 5.5 V, and the supply should be decoupled to GND.", 3 VREFB (in) "Reference Input Pin for DAC B. This is the reference for DAC B. It can be configured as a buffered or an unbuffered input, depending on the BUF bit in the control word of DAC B. It has an input range of 0 V to VDD in (See Datasheet)", 4 VREFA (in) "Reference Input Pin for DAC A. This is the reference for DAC A. It can be configured as a buffered or an unbuffered input depending on the BUF bit in the control word of DAC A. It has an input range of 0 V to VDD in (See Datasheet)", 5 VOUTA (hiz) "Buffered Analog Output Voltage from DAC A. The output amplifier has rail-to-rail operation.", 6 VOUTB (hiz) "Buffered Analog Output Voltage from DAC B. The output amplifier has rail-to-rail operation.", 7 ~{SYNC} (in) "Active Low Control Input. This is the frame synchronization signal for the input data. When S\Y\N\C\ goes low, it powers on the SCLK and DIN buffers and enables the input shift register. Data is transferred in on the falling (See Datasheet)", 8 SCLK (in) "Serial Clock Input. Data is clocked into the input shift register on the falling edge of the serial clock input. Data can be transferred at rates up to 30 MHz. The SCLK input buffer is powered down after each write cycle.", 9 DIN (in) "Serial Data Input. This device has a 16-bit input shift register. Data is clocked into the register on the falling edge of the serial clock input. The DIN input buffer is powered down after each write cycle.", 10 GND (power) "Ground Reference Point for All Circuitry on the Part."

## AD5322BRMZ
designator U?
Dual 12-Bit Rail-to-Rail Output Digital-to-Analog Converter, 2.5 to 5.5 V, -40 to +105 degC, RM-10, Pb-Free, Tube; Generic Part Number: AD5322; Manufacturer: Analog Devices; PartNumber: AD5322BRMZ; # DAC Outputs: 2; Max V+: 5.5V; Op Pwr Diss: 2.5mW; Resolution (Bits): 12; Settling Time: 8µs; Single Supply: Yes; DatasheetVersion: Rev.D; PackageVersion: May-2005; PackageReference: RM-10; PackageDescription: 10-Lead Mini Small Outline Package [MSOP]; Supplier 1: Digi-Key; Supplier Part Number 1: AD5322BRMZ-ND; Supplier 2: Farnell; Supplier Part Number 2: 9425675; Supplier 3: Newark; Supplier Part Number 3: 87H9890; Supplier 4: Mouser; Supplier Part Number 4: 584-AD5322BRMZ; Packing: Tube; RoHS: Y; Mounting Technology: Surface Mount; ComponentLink1Description: Manufacturer URL; ComponentLink1URL: http://www.analog.com/en/index.html; ComponentLink2Description: Datasheet; ComponentLink2URL: http://www.analog.com/static/imported-files/data_sheets/AD5302_5312_5322.pdf; ComponentLink3Description: Package Specification; ComponentLink3URL: http://www.analog.com/static/imported-files/packages/PKG_PDF/MSOP%28RM%29/RM_10.pdf; ComponentLink4Description: Product URL; ComponentLink4URL: http://www.analog.com/en/digital-to-analog-converters/da-converters/ad5322/products/product.html
footprint RM-10_N (TSSOP, 10-Leads, Body 3x3mm, Pitch 0.5mm, IPC Medium Density)
footprint RM-10_L (TSSOP, 10-Leads, Body 3x3mm, Pitch 0.5mm, IPC High Density)
footprint RM-10_M (TSSOP, 10-Leads, Body 3x3mm, Pitch 0.5mm, IPC Low Density)
pins: 1 ~{LDAC} (in) "Active Low Control Input. This pin transfers the contents of the input registers to their respective DAC registers. Pulsing L\D\A\C\ low allows either or both DAC registers to be updated if the input registers have new data. (See Datasheet)", 2 VDD (power) "Power Supply Input. The parts can be operated from 2.5 V to 5.5 V, and the supply should be decoupled to GND.", 3 VREFB (in) "Reference Input Pin for DAC B. This is the reference for DAC B. It can be configured as a buffered or an unbuffered input, depending on the BUF bit in the control word of DAC B. It has an input range of 0 V to VDD in (See Datasheet)", 4 VREFA (in) "Reference Input Pin for DAC A. This is the reference for DAC A. It can be configured as a buffered or an unbuffered input depending on the BUF bit in the control word of DAC A. It has an input range of 0 V to VDD in (See Datasheet)", 5 VOUTA (hiz) "Buffered Analog Output Voltage from DAC A. The output amplifier has rail-to-rail operation.", 6 VOUTB (hiz) "Buffered Analog Output Voltage from DAC B. The output amplifier has rail-to-rail operation.", 7 ~{SYNC} (in) "Active Low Control Input. This is the frame synchronization signal for the input data. When S\Y\N\C\ goes low, it powers on the SCLK and DIN buffers and enables the input shift register. Data is transferred in on the falling (See Datasheet)", 8 SCLK (in) "Serial Clock Input. Data is clocked into the input shift register on the falling edge of the serial clock input. Data can be transferred at rates up to 30 MHz. The SCLK input buffer is powered down after each write cycle.", 9 DIN (in) "Serial Data Input. This device has a 16-bit input shift register. Data is clocked into the register on the falling edge of the serial clock input. The DIN input buffer is powered down after each write cycle.", 10 GND (power) "Ground Reference Point for All Circuitry on the Part."

## AD5322BRMZ-REEL
designator U?
Dual 12-Bit Rail-to-Rail Output Digital-to-Analog Converter, 2.5 to 5.5 V, -40 to +105 degC, RM-10, Pb-Free, Reel; Generic Part Number: AD5322; Manufacturer: Analog Devices; PartNumber: AD5322BRMZ-REEL; # DAC Outputs: 2; Max V+: 5.5V; Op Pwr Diss: 2.5mW; Resolution (Bits): 12; Settling Time: 8µs; Single Supply: Yes; DatasheetVersion: Rev.D; PackageVersion: May-2005; PackageReference: RM-10; PackageDescription: 10-Lead Mini Small Outline Package [MSOP]; Supplier 1: Digi-Key; Supplier Part Number 1: AD5322BRMZ-REEL-ND; Supplier 2: Newark; Supplier Part Number 2: 87H9891; Supplier 3: Mouser; Supplier Part Number 3: 584-AD5322BRMZ-R; Packing: Reel; RoHS: Y; Mounting Technology: Surface Mount; ComponentLink1Description: Manufacturer URL; ComponentLink1URL: http://www.analog.com/en/index.html; ComponentLink2Description: Datasheet; ComponentLink2URL: http://www.analog.com/static/imported-files/data_sheets/AD5302_5312_5322.pdf; ComponentLink3Description: Package Specification; ComponentLink3URL: http://www.analog.com/static/imported-files/packages/PKG_PDF/MSOP%28RM%29/RM_10.pdf; ComponentLink4Description: Product URL; ComponentLink4URL: http://www.analog.com/en/digital-to-analog-converters/da-converters/ad5322/products/product.html
footprint RM-10_N (TSSOP, 10-Leads, Body 3x3mm, Pitch 0.5mm, IPC Medium Density)
footprint RM-10_L (TSSOP, 10-Leads, Body 3x3mm, Pitch 0.5mm, IPC High Density)
footprint RM-10_M (TSSOP, 10-Leads, Body 3x3mm, Pitch 0.5mm, IPC Low Density)
pins: 1 ~{LDAC} (in) "Active Low Control Input. This pin transfers the contents of the input registers to their respective DAC registers. Pulsing L\D\A\C\ low allows either or both DAC registers to be updated if the input registers have new data. (See Datasheet)", 2 VDD (power) "Power Supply Input. The parts can be operated from 2.5 V to 5.5 V, and the supply should be decoupled to GND.", 3 VREFB (in) "Reference Input Pin for DAC B. This is the reference for DAC B. It can be configured as a buffered or an unbuffered input, depending on the BUF bit in the control word of DAC B. It has an input range of 0 V to VDD in (See Datasheet)", 4 VREFA (in) "Reference Input Pin for DAC A. This is the reference for DAC A. It can be configured as a buffered or an unbuffered input depending on the BUF bit in the control word of DAC A. It has an input range of 0 V to VDD in (See Datasheet)", 5 VOUTA (hiz) "Buffered Analog Output Voltage from DAC A. The output amplifier has rail-to-rail operation.", 6 VOUTB (hiz) "Buffered Analog Output Voltage from DAC B. The output amplifier has rail-to-rail operation.", 7 ~{SYNC} (in) "Active Low Control Input. This is the frame synchronization signal for the input data. When S\Y\N\C\ goes low, it powers on the SCLK and DIN buffers and enables the input shift register. Data is transferred in on the falling (See Datasheet)", 8 SCLK (in) "Serial Clock Input. Data is clocked into the input shift register on the falling edge of the serial clock input. Data can be transferred at rates up to 30 MHz. The SCLK input buffer is powered down after each write cycle.", 9 DIN (in) "Serial Data Input. This device has a 16-bit input shift register. Data is clocked into the register on the falling edge of the serial clock input. The DIN input buffer is powered down after each write cycle.", 10 GND (power) "Ground Reference Point for All Circuitry on the Part."